# EAGLE library part LTC1735 (library linear-technology)
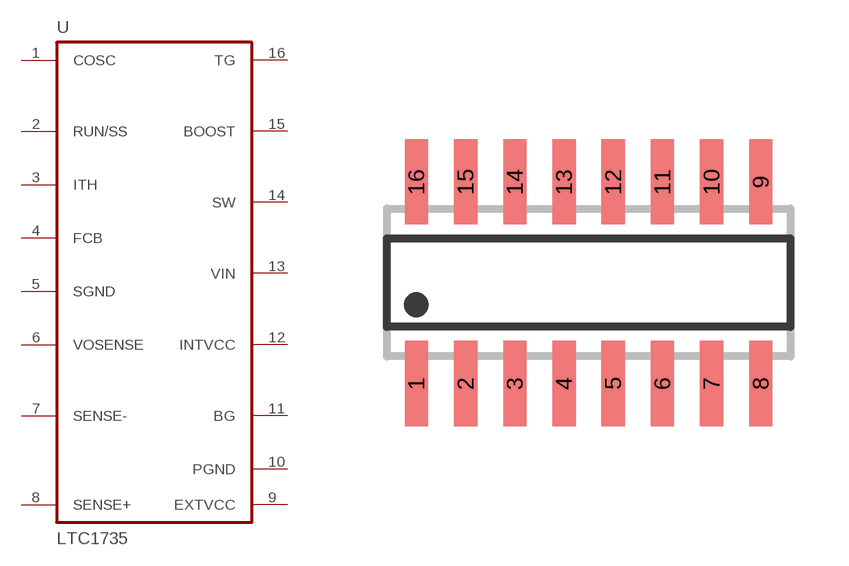
[diagram p18: symbol with the pads of SO16; footprint SO16]

Designator prefix U

## LTC1735  [SO16]
1  COSC
2  RUN/SS
3  ITH
4  FCB
5  SGND
6  VOSENSE
7  SENSE-
8  SENSE+
9  EXTVCC
10  PGND
11  BG
12  INTVCC
13  VIN
14  SW
15  BOOST
16  TG

## Footprint SO16 (pad centres in mm)
SMALL OUTLINE INTEGRATED CIRCUIT body 3.9 mm/JEDEC MS-012AC
smd 0.6 x 2.2: 1 -4.445,-2.6; 2 -3.175,-2.6; 3 -1.905,-2.6; 4 -0.635,-2.6; 5 0.635,-2.6; 6 1.905,-2.6; 7 3.175,-2.6; 8 4.445,-2.6; 9 4.445,2.6; 10 3.175,2.6; 11 1.905,2.6; 12 0.635,2.6; 13 -0.635,2.6; 14 -1.905,2.6; 15 -3.175,2.6; 16 -4.445,2.6